# Altium schematic symbol library CC0805KKX5R7BB106.SchLib: 1 symbol
Pins are listed as number, name and electrical type; pins without a type are passive.

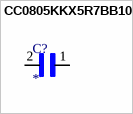
[diagram p0: symbol CC0805KKX5R7BB106]

## CC0805KKX5R7BB106
designator C?
10 ÂµF Â±10% 16V Ceramic Capacitor X5R 0805 (2012 Metric); MF: Yageo; MP: CC0805KKX5R7BB106; Price: None; Package: 0805 Yageo; Purchase-URL: https://pricing.snapeda.com/search/part/CC0805KKX5R7BB106/?ref=eda; Availability: In Stock; SnapEDA_Link: https://www.snapeda.com/parts/CC0805KKX5R7BB106/Yageo/view-part/?ref=snap; Value: *; Check_prices: https://www.snapeda.com/parts/CC0805KKX5R7BB106/Yageo/view-part/?ref=eda
footprint CAPC2012X70
pins: 1, 2